# EAGLE library part ADF4150 (library rfops)
ADF4150 Fractional-N/integer/-N PLL Synthesizer from Analog Devices
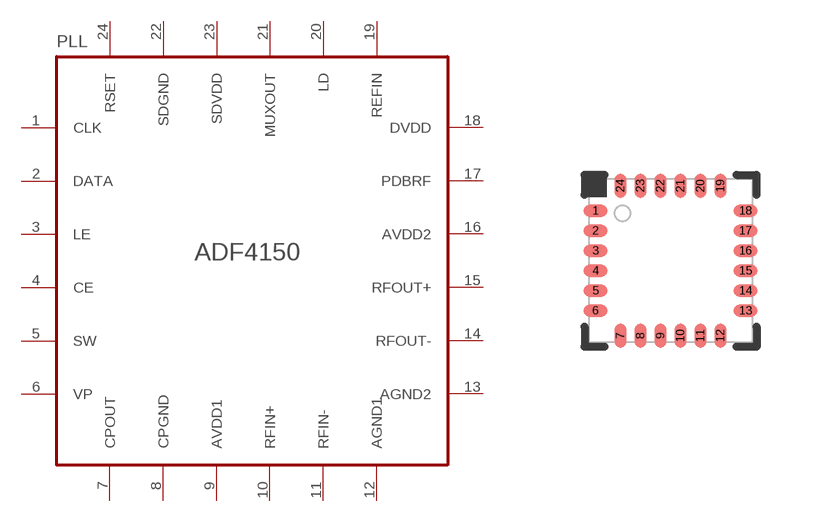
[diagram p12: symbol with the pads of LFCSP40; footprint LFCSP40]

Designator prefix PLL

## ADF4150  [LFCSP40]
1  CLK  in
2  DATA  in
3  LE  in
4  CE  in
5  SW  in
6  VP  in
7  CPOUT  out
8  CPGND  pwr
9  AVDD1  pwr
10  RFIN+  in
11  RFIN-  in
12  AGND1  pwr
13  AGND2  pwr
14  RFOUT-  out
15  RFOUT+  out
16  AVDD2  pwr
17  PDBRF  in
18  DVDD  pwr
19  REFIN  in
20  LD  out
21  MUXOUT  out
22  SDGND  pwr
23  SDVDD  pwr
24  RSET  in

## Footprint LFCSP40 (pad centres in mm)
LFCSP40 Package from Analog Devices
smd 0.6 x 0.3: 1 -1.875,1.25; 2 -1.875,0.75; 3 -1.875,0.25; 4 -1.875,-0.25; 5 -1.875,-0.75; 6 -1.875,-1.25; 13 1.875,-1.25; 14 1.875,-0.75; 15 1.875,-0.25; 16 1.875,0.25; 17 1.875,0.75; 18 1.875,1.25
smd 0.3 x 0.6: 7 -1.25,-1.875; 8 -0.75,-1.875; 9 -0.25,-1.875; 10 0.25,-1.875; 11 0.75,-1.875; 12 1.25,-1.875; 19 1.25,1.875; 20 0.75,1.875; 21 0.25,1.875; 22 -0.25,1.875; 23 -0.75,1.875; 24 -1.25,1.875